# Altium footprint library VQFN-24.PcbLib: 1 footprints
Each footprint in its own frame and in the unit in brackets; x right, y up, seen from the top. Pads: shape width x height; smd on the part's side, far side on the other; paste and mask are expansions set on the pad; w line width, h text height; cw(c..) or ccw(c..) is an arc to the next point about the centre after c.
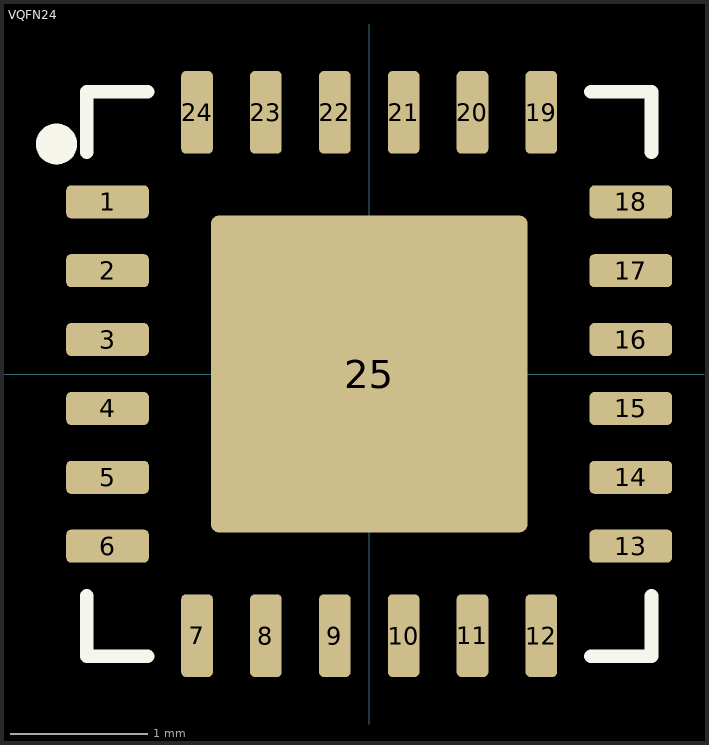
[diagram p0: the footprint, top view; thin cyan lines are the x and y axes]

## VQFN24 [mm]
height 1
pads (26):
  rrect30% 0.6x0.24 smd: 1(-1.9,1.25) 2(-1.9,0.75) 3(-1.9,0.25) 4(-1.9,-0.25) 5(-1.9,-0.75) 6(-1.9,-1.25) 13(1.9,-1.25) 14(1.9,-0.75) 15(1.9,-0.25) 16(1.9,0.25) 17(1.9,0.75) 18(1.9,1.25)
  rrect30% 0.23x0.6 smd: 7(-1.25,-1.9) 8(-0.75,-1.9) 9(-0.25,-1.9) 10(0.25,-1.9) 11(0.75,-1.9) 12(1.25,-1.9) 19(1.25,1.9) 20(0.75,1.9) 21(0.25,1.9) 22(-0.25,1.9) 23(-0.75,1.9) 24(-1.25,1.9)
  rrect5% 2.3x2.3 smd: 25(0,0)
  round 0.3 on Top Overlay: ""(-2.271,1.669)
Top Overlay:
  lines w0.1: -2.05,-1.61 -2.05,-2.05 -1.61,-2.05 ; -2.05,1.61 -2.05,2.05 -1.61,2.05 ; 1.61,-2.05 2.05,-2.05 2.05,-1.61 ; 1.61,2.05 2.05,2.05 2.05,1.61
3D body "RTW0024B.stp": height 0.8, standoff 0, extent -2,-2 2,2